# Altium footprint library 14110213001000.PcbLib: 1 footprints
Each footprint in its own frame and in the unit in brackets; x right, y up, seen from the top. Pads: shape width x height; smd on the part's side, far side on the other; paste and mask are expansions set on the pad; w line width, h text height; cw(c..) or ccw(c..) is an arc to the next point about the centre after c.
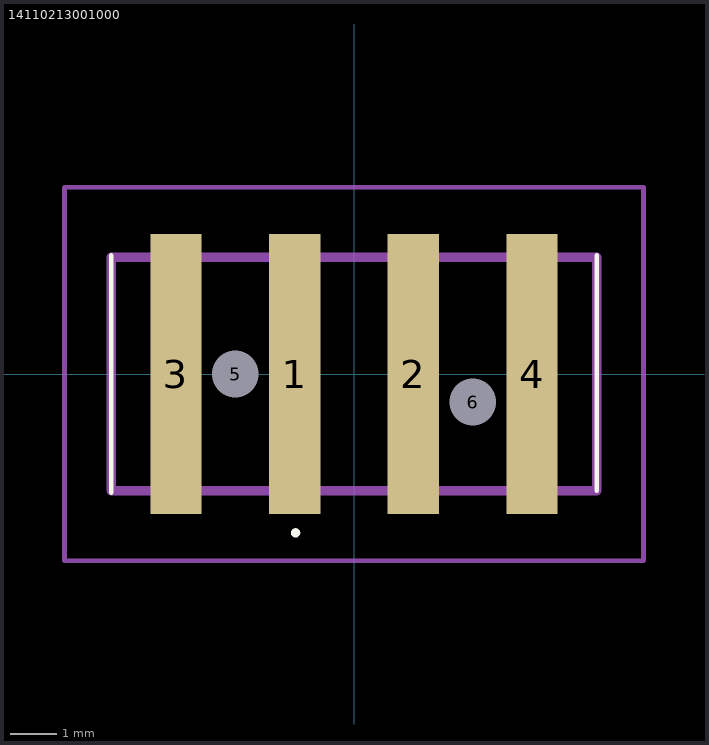
[diagram p0: the footprint, top view; thin cyan lines are the x and y axes]

## 14110213001000 [mm]
pads (6):
  rect 1.1x6 smd: 1(-1.27,0) 2(1.27,0) 3(-3.81,0) 4(3.81,0)
  round 0.5 hole 1 unplated: 5(-2.54,0) 6(2.54,-0.6)
Top Overlay:
  lines w0.1: -5.195,-2.54 -5.195,2.54 ; 5.195,-2.5 5.195,2.54 ; -1.3,-3.4 -1.3,-3.4 ; -1.3,-3.4 ccw(c-1.25,-3.4) -1.2,-3.4 ; -1.3,-3.4 cw(c-1.25,-3.4) -1.2,-3.4 ; -1.2,-3.4 -1.2,-3.4
Mechanical 15:
  lines w0.2: -5.195,-2.5 5.195,-2.5 5.195,2.5 -5.195,2.5 -5.195,-2.5
Mechanical 20:
  lines w0.1: -6.195,-4 6.195,-4 6.195,4 -6.195,4 -6.195,-4